# Altium footprint library MLACHE_J.PCBLIB: 73 footprints (part 5 of 5)
Each footprint in its own frame and in the unit in brackets; x right, y up, seen from the top. Pads: shape width x height; smd on the part's side, far side on the other; paste and mask are expansions set on the pad; w line width, h text height; cw(c..) or ccw(c..) is an arc to the next point about the centre after c.
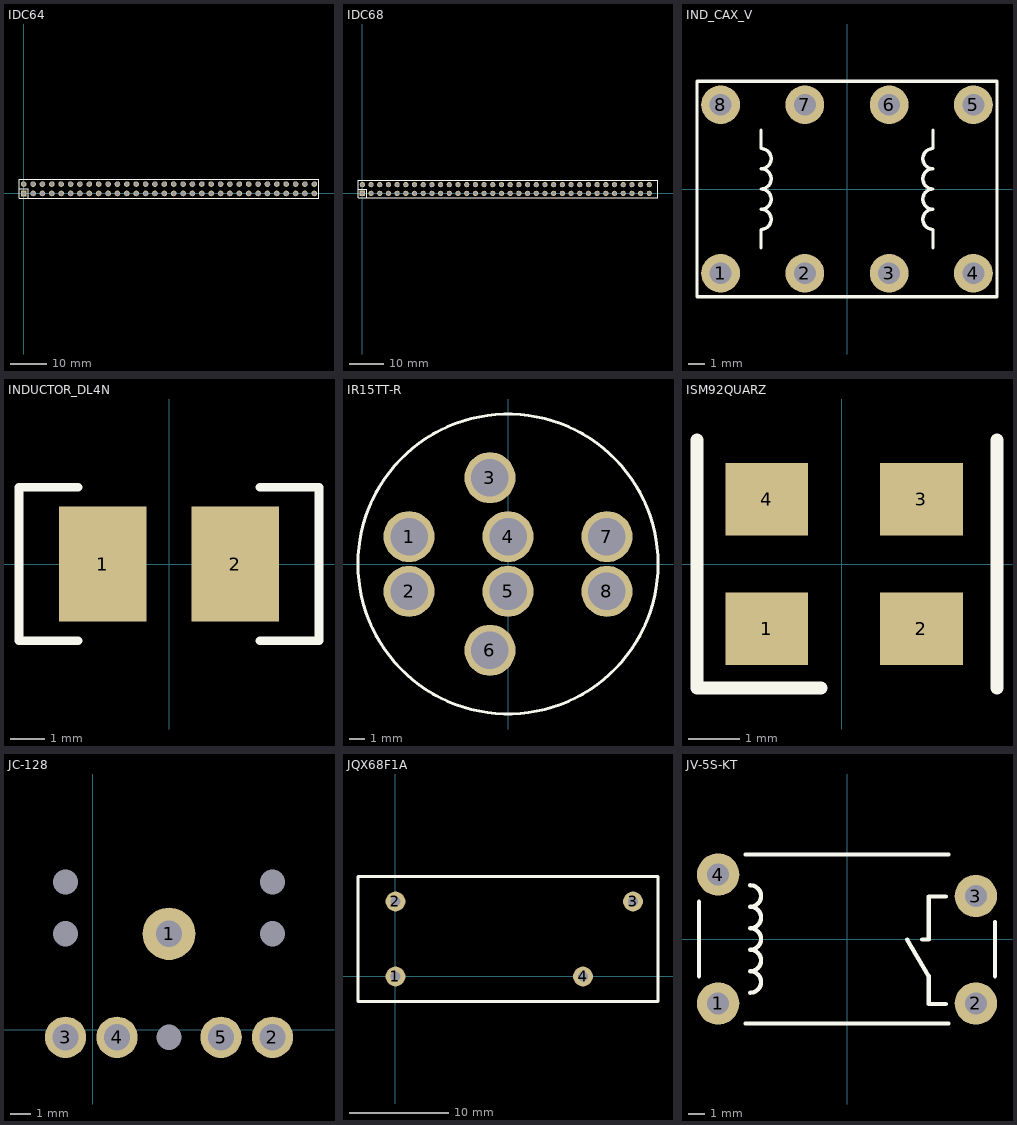
[diagram p4: the footprints below, top view; thin cyan lines are the x and y axes]

## IDC64 [mil]
pads (64):
  rect 60x60 hole 40: 1(0,0)
  round 60 hole 40: 2(0,100) 3(100,0) 4(100,100) 5(200,0) 6(200,100) 7(300,0) 8(300,100) 9(400,0) 10(400,100) 11(500,0) 12(500,100) 13(600,0) 14(600,100) 15(700,0) 16(700,100) 17(800,0) 18(800,100) 19(900,0) 20(900,100) 21(1000,0) 22(1000,100) 23(1100,0) 24(1100,100) 25(1200,0) 26(1200,100) 27(1300,0) 28(1300,100) 29(1400,0) 30(1400,100) 31(1500,0) 32(1500,100) 33(1600,0) 34(1600,100) 35(1700,0) 36(1700,100) 37(1800,0) 38(1800,100) 39(1900,0) 40(1900,100) 41(2000,0) 42(2000,100) 43(2100,0) 44(2100,100) 45(2200,0) 46(2200,100) 47(2300,0) 48(2300,100) 49(2400,0) 50(2400,100) 51(2500,0) 52(2500,100) 53(2600,0) 54(2600,100) 55(2700,0) 56(2700,100) 57(2800,0) 58(2800,100) 59(2900,0) 60(2900,100) 61(3000,0) 62(3000,100) 63(3100,0) 64(3100,100)
TopOverlay:
  lines w12: -50,50 50,50 50,-50 ; 3150,-55 3150,150 -50,150 -50,-50 3150,-50

## IDC68 [mil]
pads (68):
  rect 60x60 hole 40: 1(0,0)
  round 60 hole 40: 2(0,100) 3(100,0) 4(100,100) 5(200,0) 6(200,100) 7(300,0) 8(300,100) 9(400,0) 10(400,100) 11(500,0) 12(500,100) 13(600,0) 14(600,100) 15(700,0) 16(700,100) 17(800,0) 18(800,100) 19(900,0) 20(900,100) 21(1000,0) 22(1000,100) 23(1100,0) 24(1100,100) 25(1200,0) 26(1200,100) 27(1300,0) 28(1300,100) 29(1400,0) 30(1400,100) 31(1500,0) 32(1500,100) 33(1600,0) 34(1600,100) 35(1700,0) 36(1700,100) 37(1800,0) 38(1800,100) 39(1900,0) 40(1900,100) 41(2000,0) 42(2000,100) 43(2100,0) 44(2100,100) 45(2200,0) 46(2200,100) 47(2300,0) 48(2300,100) 49(2400,0) 50(2400,100) 51(2500,0) 52(2500,100) 53(2600,0) 54(2600,100) 55(2700,0) 56(2700,100) 57(2800,0) 58(2800,100) 59(2900,0) 60(2900,100) 61(3000,0) 62(3000,100) 63(3100,0) 64(3100,100) 65(3200,0) 66(3200,100) 67(3300,0) 68(3300,100)
TopOverlay:
  lines w12: -50,50 50,50 50,-50 ; -50,-50 -50,150 3400,150 3400,-50 -50,-50

## IND_CAX_V [mm]
pads (8):
  round 2.3 hole 1.3: 1(-7.5,-5) 2(-2.5,-5) 3(2.5,-5) 4(7.5,-5) 5(7.5,5) 6(2.5,5) 7(-2.5,5) 8(-7.5,5)
TopOverlay:
  lines w0.2: -5.1,-3.5 -5.1,-2.4 ccw(c-5.1,-1.8) -5.1,-1.2 ccw(c-5.1,-0.6) -5.1,0 ccw(c-5.1,0.6) -5.1,1.2 ccw(c-5.1,1.8) -5.1,2.4 -5.1,3.5 ; 5.1,-3.5 5.1,-2.4 cw(c5.1,-1.8) 5.1,-1.2 cw(c5.1,-0.6) 5.1,0 cw(c5.1,0.6) 5.1,1.2 cw(c5.1,1.8) 5.1,2.4 5.1,3.5 ; -8.9,-6.4 -8.9,6.4 8.9,6.4 8.9,-6.4 -8.9,-6.4
3D body: height 20, standoff 0, extent -8.9,-6.4 8.9,6.4

## INDUCTOR_DL4N [mm]
pads (2):
  rect 2.5x3.3 smd: 1(-1.9,0) 2(1.9,0)
TopOverlay:
  lines w0.254: -2.6,-2.2 -4.3,-2.2 -4.3,2.2 -2.6,2.2 ; 2.6,-2.2 4.3,-2.2 4.3,2.2 2.6,2.2
3D body: height 0.9, standoff 0, extent -2.25,-1.6 -0.7,1.6
3D body: height 0.9, standoff 0, extent 0.7,-1.6 2.25,1.6
3D body: height 0.9, standoff 0, extent -0.7,-1.6 0.7,1.6
3D body: height 2.7, standoff 0.9, extent -1.295,-1.295 1.295,1.3
3D body: height 2.8, standoff 1.8, extent -1.6,-1.6 1.6,1.6

## IR15TT-R [mm]
pads (8):
  round 3.4 hole 2.5 mask+0.3: 1(-6.6,1.825) 2(-6.6,-1.825) 3(-1.2,5.75) 4(0,1.825) 5(0,-1.825) 6(-1.2,-5.75) 7(6.6,1.825) 8(6.6,-1.825)
TopOverlay:
  circle w0.2: c0,0 r10
3D body: height 19, standoff 0, extent -10,-10 9.921,9.961

## ISM92QUARZ [mm]
pads (4):
  rect 1.6x1.4 smd: 1(-1.45,-1.25) 2(1.54,-1.25) 3(1.54,1.25) 4(-1.45,1.25)
TopOverlay:
  lines w0.254: -2.8,2.4 -2.8,-2.4 -0.4,-2.4 ; 3,-2.4 3,2.4

## JC-128 [mil]
pads (10):
  round 10 hole 48: 0(-52,182.85) 0(-52,281.28) 0(144.85,-14) 0(341.7,182.85) 0(341.7,281.28)
  round 100 hole 50: 1(144.85,182.85)
  round 78.74 hole 50: 2(341.7,-14) 3(-52,-14) 4(46,-14) 5(244,-14)
BottomOverlay:
  lines w3.94: -32.31,320.65 -32.31,360.02 144.85,360.02 322.02,360.02 322.02,320.65 ; 26.74,360.02 26.74,458.44 144.85,458.44 262.96,458.44 262.96,360.02
  lines w4: -91.37,-112.42 377.13,-112.42 381.07,-112.42 381.07,320.65 -91.37,320.65 -91.37,-112.42

## JQX68F1A [mm]
pads (4):
  round 2 hole 1: 1(0,0) 2(0,7.56) 3(23.94,7.56) 4(18.9,0)
TopOverlay:
  lines w0.254: -3.78,-2.52 26.46,-2.52 26.46,10.08 -3.78,10.08 -3.78,-2.52

## JV-5S-KT [mm]
pads (4):
  round 2.5 hole 1.3: 1(-7.62,-3.81) 2(7.62,-3.81) 3(7.62,2.54) 4(-7.62,3.81)
TopOverlay:
  lines w0.254: -8.75,-2.2 -8.75,2.2 ; -6,-5 6,-5 ; -6,5 6,5 ; -5.715,-3.175 ccw(c-5.715,-2.54) -5.715,-1.905 ccw(c-5.715,-1.27) -5.715,-0.635 ccw(c-5.715,0) -5.715,0.635 ccw(c-5.715,1.27) -5.715,1.905 ccw(c-5.715,2.54) -5.715,3.175 ; 3.556,-0.03 4.826,-2.189 4.826,-3.84 5.842,-3.84 ; 4.445,-0.03 4.826,-0.03 4.826,2.51 5.842,2.51 ; 8.75,-2.2 8.75,1
3D body: height 12.5, standoff 0, extent -8.763,-5.08 8.763,5.08